# Altium schematic symbol library BME280.SchLib: 1 symbol
Pins are listed as number, name and electrical type; pins without a type are passive.

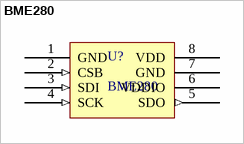
[diagram p0: symbol BME280]

## BME280
designator U?
Combined humidity and pressure sensor
footprint BME280-2 (BME280)
pins: 1 GND (power), 2 CSB (in), 3 SDI (in), 4 SCK (in), 5 SDO (out), 6 VDDIO (power), 7 GND (power), 8 VDD (power)